# Altium schematic symbol library Memory_ROM.SchLib: 2 symbols
Pins are listed as number, name and electrical type; pins without a type are passive.

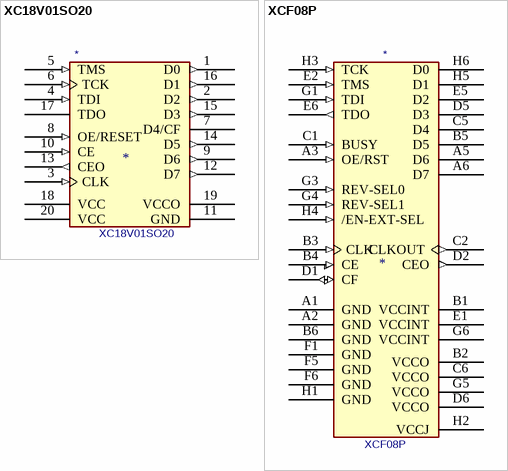
[diagram p0: symbols XC18V01SO20 to XCF08P]

## XC18V01SO20
designator *  value XC18V01SO20
Supplier: xilinx/xc18v00proms.pdf
pins: 1 D0 (out), 2 D2 (out), 3 CLK (in), 4 TDI (in), 5 TMS (in), 6 TCK (in), 7 D4/CF (oc), 8 OE/RESET (in), 9 D6 (out), 10 CE (in), 11 GND (power), 12 D7 (out), 13 CEO (out), 14 D5 (out), 15 D3 (out), 16 D1 (out), 17 TDO (oc), 18 VCC (power), 19 VCCO (power), 20 VCC (power)

## XCF08P
designator *  value XCF08P
ki_keywords: PROM FLASH; ki_description: Platform Flash In-System PROM; Supplier: https://www.xilinx.com/support/documentation/data_sheets/ds123.pdf
pins: A1 GND (power), A2 GND (power), A3 OE/RST (in), A5 D6 (hiz), A6 D7 (hiz), B1 VCCINT (power), B2 VCCO (power), B3 CLK (in), B4 CE (in), B5 D5 (hiz), B6 GND (power), C1 BUSY (in), C2 CLKOUT (out), C5 D4 (hiz), C6 VCCO (power), D1 CF (io), D2 CEO (out), D5 D3 (hiz), D6 VCCO (power), E1 VCCINT (power), E2 TMS (in), E5 D2 (hiz), E6 TDO (out), F1 GND (power), F5 GND (power), F6 GND (power), G1 TDI (in), G3 REV-SEL0 (in), G4 REV-SEL1 (in), G5 VCCO (power), G6 VCCINT (power), H1 GND (power), H2 VCCJ (power), H3 TCK (in), H4 /EN-EXT-SEL (in), H5 D1 (hiz), H6 D0 (hiz)